# Altium footprint library e-puck3-camera-4L.PcbLib: 3 footprints
Each footprint in its own frame and in the unit in brackets; x right, y up, seen from the top. Pads: shape width x height; smd on the part's side, far side on the other; paste and mask are expansions set on the pad; w line width, h text height; cw(c..) or ccw(c..) is an arc to the next point about the centre after c.
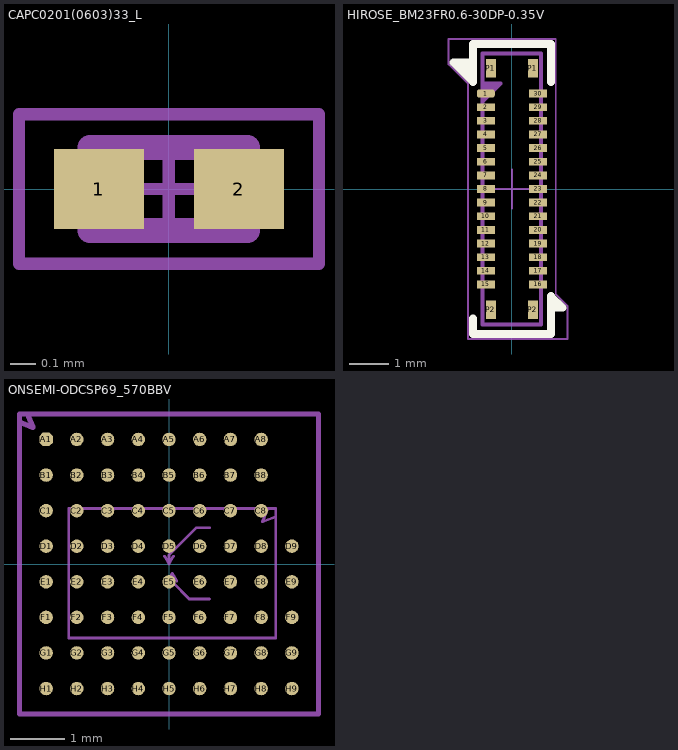
[diagram p0: the footprints below, top view; thin cyan lines are the x and y axes]

## CAPC0201(0603)33_L [mm] "Chip Capacitor, Body 0.6x0.3mm, Height 0.33mm, IPC High Density"
height 0.33
pads (2):
  rect 0.36x0.32 smd: 1(-0.28,0) 2(0.28,0)
Mechanical 13:
  lines w0.1: -0.315,-0.165 0.315,-0.165 0.315,0.165 -0.315,0.165 -0.315,-0.165
Mechanical 15:
  lines w0.05: -0.165,0 0.165,0 ; 0,-0.165 0,0.165 ; -0.6,-0.3 0.6,-0.3 0.6,0.3 -0.6,0.3 -0.6,-0.3
3D body: height 0.33, standoff 0, extent 0.165,-0.165 0.315,0.165
3D body: height 0.33, standoff 0, extent -0.315,-0.165 -0.165,0.165
3D body: height 0.33, standoff 0, extent -0.165,-0.165 0.165,0.165

## HIROSE_BM23FR0.6-30DP-0.35V [mm] "Hirose header BM23FR0.6 Serie, 30 leads, Plug Vertical SMT"
height 0.6
pads (34):
  rrect50% 0.46x0.2 smd mask+0.05: 1(-0.67,2.45)
  rect 0.46x0.2 smd mask+0.05: 2(-0.67,2.1) 3(-0.67,1.75) 4(-0.67,1.4) 5(-0.67,1.05) 6(-0.67,0.7) 7(-0.67,0.35) 8(-0.67,0) 9(-0.67,-0.35) 10(-0.67,-0.7) 11(-0.67,-1.05) 12(-0.67,-1.4) 13(-0.67,-1.75) 14(-0.67,-2.1) 15(-0.67,-2.45) 16(0.67,-2.45) 17(0.67,-2.1) 18(0.67,-1.75) 19(0.67,-1.4) 20(0.67,-1.05) 21(0.67,-0.7) 22(0.67,-0.35) 23(0.67,0) 24(0.67,0.35) 25(0.67,0.7) 26(0.67,1.05) 27(0.67,1.4) 28(0.67,1.75) 29(0.67,2.1) 30(0.67,2.45)
  rect 0.26x0.47 smd mask+0.05: P1(-0.54,3.1) P1(0.54,3.1) P2(-0.54,-3.1) P2(0.54,-3.1)
Top Overlay:
  lines w0.2: -1.3,3.25 -1,2.95 ; -1.1,3.25 -1,3.15 ; -1,-3.325 -1,-3.725 1,-3.725 1,-2.75 1.3,-3.05 1,-3.05 ; -1,3.25 -1.5,3.25 -1,2.75 -1,3.725 1,3.725 1,2.75 ; 1,-2.95 1.1,-3.05 ; 1,-2.85 1.2,-3.05
Mechanical 13:
  lines w0.1: -0.75,2.25 -0.295,2.705 -0.75,2.705 ; -0.75,2.35 -0.395,2.705 ; -0.75,2.45 -0.495,2.705 ; -0.75,2.55 -0.595,2.705 ; -0.75,-3.475 0.75,-3.475 0.75,3.475 -0.75,3.475 -0.75,-3.475
Mechanical 15:
  lines w0.05: -0.5,0 0,0 ; 0,-0.5 0,0 ; 0,0.5 0,0 ; 0.5,0 0,0 ; -1.625,3.2 -1.125,2.7 -1.125,-3.85 1.425,-3.85 1.425,-3 1.125,-2.7 1.125,3.85 -1.625,3.85 -1.625,3.2
3D body "HIROSE_BM23PF0_8-20DP-0_35V.stp": height 0.52, standoff 0, extent -0.75,-3.475 0.75,3.475

## ONSEMI-ODCSP69_570BBV [mm] "ODCSP69 5.545x5.565, CASE 570BV, ISSUE B"
height 0.77
pads (69):
  oct 0.25x0.25 smd mask+0.03: A1(-2.28,2.31)
  round 0.25 smd mask+0.03: A2(-1.71,2.31) A3(-1.14,2.31) A4(-0.57,2.31) A5(0,2.31) A6(0.57,2.31) A7(1.14,2.31) A8(1.71,2.31) B1(-2.28,1.65) B2(-1.71,1.65) B3(-1.14,1.65) B4(-0.57,1.65) B5(0,1.65) B6(0.57,1.65) B7(1.14,1.65) B8(1.71,1.65) C1(-2.28,0.99) C2(-1.71,0.99) C3(-1.14,0.99) C4(-0.57,0.99) C5(0,0.99) C6(0.57,0.99) C7(1.14,0.99) C8(1.71,0.99) D1(-2.28,0.33) D2(-1.71,0.33) D3(-1.14,0.33) D4(-0.57,0.33) D5(0,0.33) D6(0.57,0.33) D7(1.14,0.33) D8(1.71,0.33) D9(2.28,0.33) E1(-2.28,-0.33) E2(-1.71,-0.33) E3(-1.14,-0.33) E4(-0.57,-0.33) E5(0,-0.33) E6(0.57,-0.33) E7(1.14,-0.33) E8(1.71,-0.33) E9(2.28,-0.33) F1(-2.28,-0.99) F2(-1.71,-0.99) F3(-1.14,-0.99) F4(-0.57,-0.99) F5(0,-0.99) F6(0.57,-0.99) F7(1.14,-0.99) F8(1.71,-0.99) F9(2.28,-0.99) G1(-2.28,-1.65) G2(-1.71,-1.65) G3(-1.14,-1.65) G4(-0.57,-1.65) G5(0,-1.65) G6(0.57,-1.65) G7(1.14,-1.65) G8(1.71,-1.65) G9(2.28,-1.65) H1(-2.28,-2.31) H2(-1.71,-2.31) H3(-1.14,-2.31) H4(-0.57,-2.31) H5(0,-2.31) H6(0.57,-2.31) H7(1.14,-2.31) H8(1.71,-2.31) H9(2.28,-2.31)
Mechanical 13:
  lines w0.05: 1.833,1.029 1.734,0.781 1.982,0.88 ; -1.858,-1.371 1.982,-1.371 1.982,1.029 -1.858,1.029 -1.858,-1.371
  lines w0.1: -2.772,2.634 -2.525,2.535 -2.624,2.782 ; -2.772,-2.782 2.772,-2.782 2.772,2.782 -2.772,2.782 -2.772,-2.782
Mechanical 15:
  lines w0.05: -0.082,0.143 0,0 ; -0.021,-0.314 0.062,-0.171 ; 0.082,0.143 0,0 ; 0.144,-0.314 0.062,-0.171 ; 0.75,-0.65 0.376,-0.65 0.062,-0.336 0.062,-0.171 ; 0.75,0.675 0.51,0.675 0,0.165 0,0
  text "Optical" at 0.788,-0.654 h0.5
  text "Mechanical" at 0.813,0.671 h0.5
3D body: height 0.23, standoff -0.03, extent 1.589,-2.431 1.831,-2.185
3D body: height 0.23, standoff -0.03, extent 1.019,-2.431 1.261,-2.185
3D body: height 0.23, standoff -0.03, extent 0.449,-2.431 0.691,-2.185
3D body: height 0.23, standoff -0.03, extent -0.121,-2.431 0.121,-2.185
3D body: height 0.23, standoff -0.03, extent -0.691,-2.431 -0.449,-2.185
3D body: height 0.23, standoff -0.03, extent -1.261,-2.431 -1.019,-2.185
3D body: height 0.23, standoff -0.03, extent -1.831,-2.431 -1.589,-2.185
3D body: height 0.23, standoff -0.03, extent -2.401,-2.431 -2.159,-2.185
3D body: height 0.23, standoff -0.03, extent 2.159,-2.431 2.401,-2.185
3D body: height 0.23, standoff -0.03, extent 1.589,-1.771 1.831,-1.525
3D body: height 0.23, standoff -0.03, extent 1.019,-1.771 1.261,-1.525
3D body: height 0.23, standoff -0.03, extent 0.449,-1.771 0.691,-1.525
3D body: height 0.23, standoff -0.03, extent -0.121,-1.771 0.121,-1.525
3D body: height 0.23, standoff -0.03, extent -0.691,-1.771 -0.449,-1.525
3D body: height 0.23, standoff -0.03, extent -1.261,-1.771 -1.019,-1.525
3D body: height 0.23, standoff -0.03, extent -1.831,-1.771 -1.589,-1.525
3D body: height 0.23, standoff -0.03, extent -2.401,-1.771 -2.159,-1.525
3D body: height 0.23, standoff -0.03, extent 2.159,-1.771 2.401,-1.525
3D body: height 0.23, standoff -0.03, extent 1.589,-1.111 1.831,-0.865
3D body: height 0.23, standoff -0.03, extent 1.019,-1.111 1.261,-0.865
3D body: height 0.23, standoff -0.03, extent 0.449,-1.111 0.691,-0.865
3D body: height 0.23, standoff -0.03, extent -0.121,-1.111 0.121,-0.865
3D body: height 0.23, standoff -0.03, extent -0.691,-1.111 -0.449,-0.865
3D body: height 0.23, standoff -0.03, extent -1.261,-1.111 -1.019,-0.865
3D body: height 0.23, standoff -0.03, extent -1.831,-1.111 -1.589,-0.865
3D body: height 0.23, standoff -0.03, extent -2.401,-1.111 -2.159,-0.865
3D body: height 0.23, standoff -0.03, extent 2.159,-1.111 2.401,-0.865
3D body: height 0.23, standoff -0.03, extent 1.589,-0.451 1.831,-0.205
3D body: height 0.23, standoff -0.03, extent 1.019,-0.451 1.261,-0.205
3D body: height 0.23, standoff -0.03, extent 0.449,-0.451 0.691,-0.205
3D body: height 0.23, standoff -0.03, extent -0.121,-0.451 0.121,-0.205
3D body: height 0.23, standoff -0.03, extent -0.691,-0.451 -0.449,-0.205
3D body: height 0.23, standoff -0.03, extent -1.261,-0.451 -1.019,-0.205
3D body: height 0.23, standoff -0.03, extent -1.831,-0.451 -1.589,-0.205
3D body: height 0.23, standoff -0.03, extent -2.401,-0.451 -2.159,-0.205
3D body: height 0.23, standoff -0.03, extent 2.159,-0.451 2.401,-0.205
3D body: height 0.23, standoff -0.03, extent 2.159,0.209 2.401,0.455
3D body: height 0.23, standoff -0.03, extent -2.401,0.209 -2.159,0.455
3D body: height 0.23, standoff -0.03, extent -1.831,0.209 -1.589,0.455
3D body: height 0.23, standoff -0.03, extent -1.261,0.209 -1.019,0.455
3D body: height 0.23, standoff -0.03, extent -0.691,0.209 -0.449,0.455
3D body: height 0.23, standoff -0.03, extent -0.121,0.209 0.121,0.455
3D body: height 0.23, standoff -0.03, extent 0.449,0.209 0.691,0.455
3D body: height 0.23, standoff -0.03, extent 1.019,0.209 1.261,0.455
3D body: height 0.23, standoff -0.03, extent 1.589,0.209 1.831,0.455
3D body: height 0.23, standoff -0.03, extent -2.401,0.869 -2.159,1.115
3D body: height 0.23, standoff -0.03, extent -1.831,0.869 -1.589,1.115
3D body: height 0.23, standoff -0.03, extent -1.261,0.869 -1.019,1.115
3D body: height 0.23, standoff -0.03, extent -0.691,0.869 -0.449,1.115
3D body: height 0.23, standoff -0.03, extent -0.121,0.869 0.121,1.115
3D body: height 0.23, standoff -0.03, extent 0.449,0.869 0.691,1.115
3D body: height 0.23, standoff -0.03, extent 1.019,0.869 1.261,1.115
3D body: height 0.23, standoff -0.03, extent 1.589,0.869 1.831,1.115
3D body: height 0.23, standoff -0.03, extent -2.401,1.529 -2.159,1.775
3D body: height 0.23, standoff -0.03, extent -1.831,1.529 -1.589,1.775
3D body: height 0.23, standoff -0.03, extent -1.261,1.529 -1.019,1.775
3D body: height 0.23, standoff -0.03, extent -0.691,1.529 -0.449,1.775
3D body: height 0.23, standoff -0.03, extent -0.121,1.529 0.121,1.775
3D body: height 0.23, standoff -0.03, extent 0.449,1.529 0.691,1.775
3D body: height 0.23, standoff -0.03, extent 1.019,1.529 1.261,1.775
3D body: height 0.23, standoff -0.03, extent 1.589,1.529 1.831,1.775
3D body: height 0.23, standoff -0.03, extent 1.589,2.189 1.831,2.435
3D body: height 0.23, standoff -0.03, extent 1.019,2.189 1.261,2.435
3D body: height 0.23, standoff -0.03, extent 0.449,2.189 0.691,2.435
3D body: height 0.23, standoff -0.03, extent -0.121,2.189 0.121,2.435
3D body: height 0.23, standoff -0.03, extent -0.691,2.189 -0.449,2.435
3D body: height 0.23, standoff -0.03, extent -1.261,2.189 -1.019,2.435
3D body: height 0.23, standoff -0.03, extent -1.831,2.189 -1.589,2.435
3D body: height 0.77, standoff 0.5, extent -1.858,-1.371 1.982,1.029
3D body: height 0.77, standoff 0.1, extent -2.773,-2.783 2.772,2.782
3D body: height 0.23, standoff -0.03, extent -2.401,2.189 -2.159,2.435